# EAGLE library part DMC2020USD-COMPLEMENTARY_PAIR_MOSFET (library SMORSE_Chao)
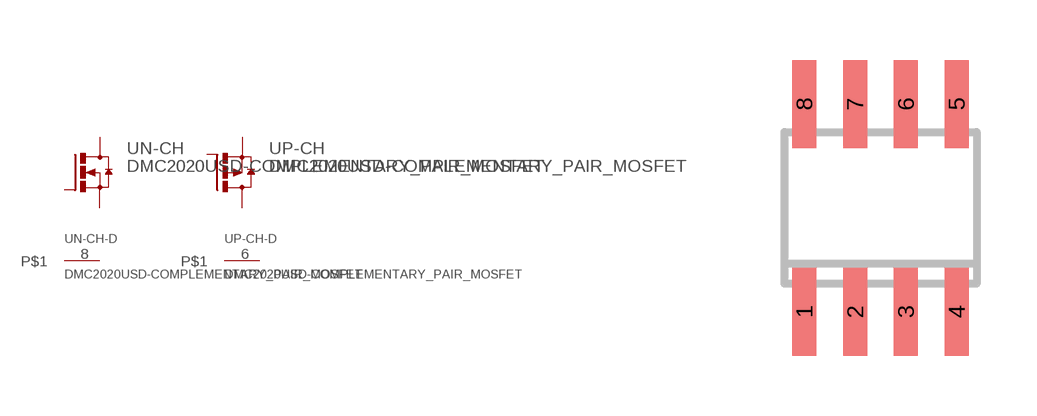
[diagram p11: symbol with the pads of SO-8; footprint SO-8]

Designator prefix -; gates N-CH=N-CH_MOSFET P-CH=P-CH_MOSFET N-CH-D=PAS_PIN P-CH-D=PAS_PIN

## DMC2020USD-COMPLEMENTARY_PAIR_MOSFET  [SO-8]
1  N-CH:S  pas
2  N-CH:G  pas
3  P-CH:S  pas
4  P-CH:G  pas
5  P-CH:D  pas
6  P-CH-D:P$1  pas
7  N-CH:D  pas
8  N-CH-D:P$1  pas

## Footprint SO-8 (pad centres in mm)
smd 0.6 x 2.2: 1 -1.905,-2.6; 2 -0.635,-2.6; 3 0.635,-2.6; 4 1.905,-2.6; 5 1.905,2.6; 6 0.635,2.6; 7 -0.635,2.6; 8 -1.905,2.6